# EAGLE library part 1554КП11 (library std-logic-1554series)
АЕЯР.431200.182-11 ТУ 1554КП11 - Четыре селектора-мультиплексора 2-1 с тремя состояниями на выходе. Изготовитель: ОАО "ИНТЕГРАЛ", г. Минск, р. Беларусь. Технические условия (ТБМ): АЕЯР.431200.182-11 ТУ Технические условия (не ТБМ): АЕЯР.431200.093-06 ТУ
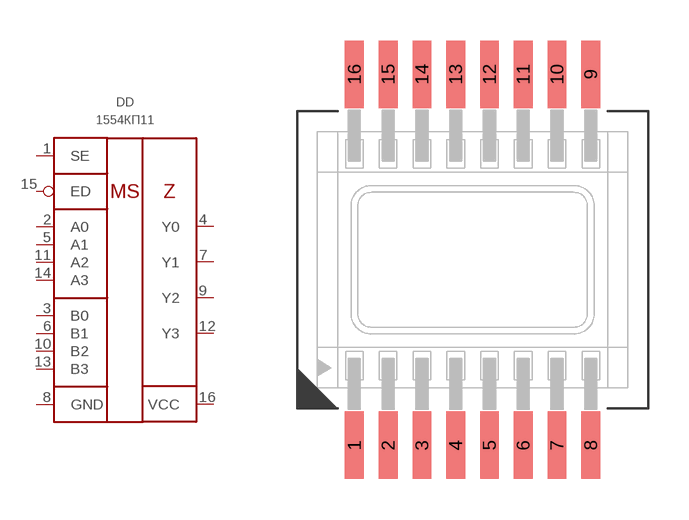
[diagram p46: symbol with the pads of 402.16-32; footprint 402.16-32]

Designator prefix DD

## 1554КП11ТБМ  [402.16-32]
1  SE  in
2  A0  in
3  B0  in
4  Y0  in
5  A1  in
6  B1  in
7  Y1  in
8  GND  pwr
9  Y2  in
10  B2  in
11  A2  in
12  Y3  in
13  B3  in
14  A3  in
15  ED  in
16  VCC  pwr

## Footprint 402.16-32 (pad centres in mm)
smd 0.7 x 2.5: 1 -4.375,-6.875; 2 -3.125,-6.875; 3 -1.875,-6.875; 4 -0.625,-6.875; 5 0.625,-6.875; 6 1.875,-6.875; 7 3.125,-6.875; 8 4.375,-6.875; 9 4.375,6.875; 10 3.125,6.875; 11 1.875,6.875; 12 0.625,6.875; 13 -0.625,6.875; 14 -1.875,6.875; 15 -3.125,6.875; 16 -4.375,6.875